# EAGLE library part RT9288A (library dword1511-pmic-dcdc)
PWM Step-Up Controller for White-LED Driver
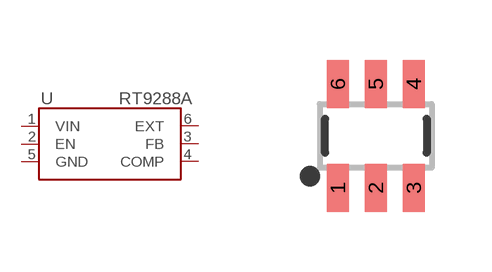
[diagram p23: symbol with the pads of SOT-23-6; footprint SOT-23-6]

Designator prefix U

## RT9288AGE, RT9288APE  [SOT-23-6]
1  VIN  pwr
2  EN  in
3  FB  in
4  COMP  out
5  GND  pwr
6  EXT  out

## Footprint SOT-23-6 (pad centres in mm)
smd 0.55 x 1.2: 1 -0.95,-1.3; 2 0,-1.3; 3 0.95,-1.3; 4 0.95,1.3; 5 0,1.3; 6 -0.95,1.3